# Altium integrated library 614105150721.IntLib: 1 symbol
Pins are listed as number, name and electrical type; pins without a type are passive.

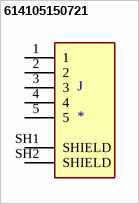
[diagram p0: symbol 614105150721]

## 614105150721
designator J
USB - micro B USB 2.0 Receptacle Connector 5 Position Through Hole; MP: 614105150721; MF: Wurth Electronics; Package: None; Digi-Key_Part_Number: 732-5958-1-ND; SnapEDA_Link: https://www.snapeda.com/parts/614105150721/Wurth%20Electronics%20Inc./view-part/1118291/?ref=snap; Value: *; Digi-Key_Purchase_URL: https://www.digikey.com/product-detail/en/w-rth-elektronik/614105150721/732-5958-1-ND/5047553?utm_source=snapeda&utm_medium=aggregator&utm_campaign=symbol
footprint WURTH_614105150721
pins: 1, 2, 3, 4, 5, SH1 SHIELD, SH2 SHIELD